# EAGLE library part XBEE_PROTO (library pxbee_proto)
XBee Prototype area
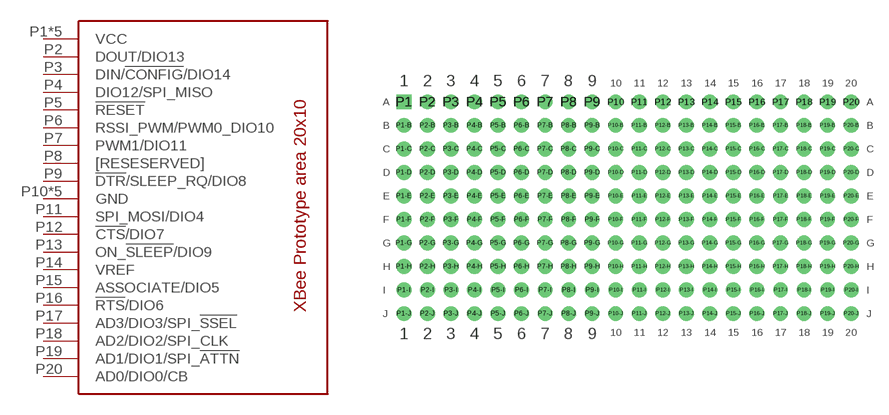
[diagram p0: symbol with the pads of XBEE_PROTO_TH_20X10; footprint XBEE_PROTO_TH_20X10]

Designator prefix -

## XBEE_PROTO  [XBEE_PROTO_TH_20X10]
P1  VCC  pwr
P1-B  VCC  pwr
P1-C  VCC  pwr
P1-D  VCC  pwr
P1-E  VCC  pwr
P2  DOUT/DIO13
P3  DIN/!CONFIG!/DIO14
P4  DIO12/SPI_MISO
P5  !RESET  in
P6  RSSI_PWM/PWM0_DIO10
P7  PWM1/DIO11
P8  [RESESERVED]  nc
P9  !DTR!/SLEEP_RQ/DIO8
P10  GND  pwr
P10-B  GND  pwr
P10-C  GND  pwr
P10-D  GND  pwr
P10-E  GND  pwr
P11  SPI_MOSI/DIO4
P12  !CTS!/DIO7
P13  ON_!SLEEP!/DIO9
P14  VREF  in
P15  ASSOCIATE/DIO5
P16  !RTS!/DIO6
P17  AD3/DIO3/SPI_!SSEL!
P18  AD2/DIO2/SPI_CLK
P19  AD1/DIO1/SPI_!ATTN!
P20  AD0/DIO0/CB

## Footprint XBEE_PROTO_TH_20X10 (pad centres in mm)
drill 1 pad 1.6 square: P1 -24.13,0
drill 1 pad 1.6: P1-B -24.13,-2.54; P1-C -24.13,-5.08; P1-D -24.13,-7.62; P1-E -24.13,-10.16; P1-F -24.13,-12.7; P1-G -24.13,-15.24; P1-H -24.13,-17.78; P1-I -24.13,-20.32; P1-J -24.13,-22.86; P2 -21.59,0; P2-B -21.59,-2.54; P2-C -21.59,-5.08; P2-D -21.59,-7.62; P2-E -21.59,-10.16; P2-F -21.59,-12.7; P2-G -21.59,-15.24; P2-H -21.59,-17.78; P2-I -21.59,-20.32; P2-J -21.59,-22.86; P3 -19.05,0; P3-B -19.05,-2.54; P3-C -19.05,-5.08; P3-D -19.05,-7.62; P3-E -19.05,-10.16; P3-F -19.05,-12.7; P3-G -19.05,-15.24; P3-H -19.05,-17.78; P3-I -19.05,-20.32; P3-J -19.05,-22.86; P4 -16.51,0; P4-B -16.51,-2.54; P4-C -16.51,-5.08; P4-D -16.51,-7.62; P4-E -16.51,-10.16; P4-F -16.51,-12.7; P4-G -16.51,-15.24; P4-H -16.51,-17.78; P4-I -16.51,-20.32; P4-J -16.51,-22.86; P5 -13.97,0; P5-B -13.97,-2.54; P5-C -13.97,-5.08; P5-D -13.97,-7.62; P5-E -13.97,-10.16; P5-F -13.97,-12.7; P5-G -13.97,-15.24; P5-H -13.97,-17.78; P5-I -13.97,-20.32; P5-J -13.97,-22.86; P6 -11.43,0; P6-B -11.43,-2.54; P6-C -11.43,-5.08; P6-D -11.43,-7.62; P6-E -11.43,-10.16; P6-F -11.43,-12.7; P6-G -11.43,-15.24; P6-H -11.43,-17.78; P6-I -11.43,-20.32; P6-J -11.43,-22.86; P7 -8.89,0; P7-B -8.89,-2.54; P7-C -8.89,-5.08; P7-D -8.89,-7.62; P7-E -8.89,-10.16; P7-F -8.89,-12.7; P7-G -8.89,-15.24; P7-H -8.89,-17.78; P7-I -8.89,-20.32; P7-J -8.89,-22.86; P8 -6.35,0; P8-B -6.35,-2.54; P8-C -6.35,-5.08; P8-D -6.35,-7.62; P8-E -6.35,-10.16; P8-F -6.35,-12.7; P8-G -6.35,-15.24; P8-H -6.35,-17.78; P8-I -6.35,-20.32; P8-J -6.35,-22.86; P9 -3.81,0; P9-B -3.81,-2.54; P9-C -3.81,-5.08; P9-D -3.81,-7.62; P9-E -3.81,-10.16; P9-F -3.81,-12.7; P9-G -3.81,-15.24; P9-H -3.81,-17.78; P9-I -3.81,-20.32; P9-J -3.81,-22.86; P10 -1.27,0; P10-B -1.27,-2.54; P10-C -1.27,-5.08; P10-D -1.27,-7.62; P10-E -1.27,-10.16; P10-F -1.27,-12.7; P10-G -1.27,-15.24; P10-H -1.27,-17.78; P10-I -1.27,-20.32; P10-J -1.27,-22.86; P11 1.27,0; P11-B 1.27,-2.54; P11-C 1.27,-5.08; P11-D 1.27,-7.62; P11-E 1.27,-10.16; P11-F 1.27,-12.7; P11-G 1.27,-15.24; P11-H 1.27,-17.78; P11-I 1.27,-20.32; P11-J 1.27,-22.86; P12 3.81,0; P12-B 3.81,-2.54; P12-C 3.81,-5.08; P12-D 3.81,-7.62; P12-E 3.81,-10.16; P12-F 3.81,-12.7; P12-G 3.81,-15.24; P12-H 3.81,-17.78; P12-I 3.81,-20.32; P12-J 3.81,-22.86; P13 6.35,0; P13-B 6.35,-2.54; P13-C 6.35,-5.08; P13-D 6.35,-7.62; P13-E 6.35,-10.16; P13-F 6.35,-12.7; P13-G 6.35,-15.24; P13-H 6.35,-17.78; P13-I 6.35,-20.32; P13-J 6.35,-22.86; P14 8.89,0; P14-B 8.89,-2.54; P14-C 8.89,-5.08; P14-D 8.89,-7.62; P14-E 8.89,-10.16; P14-F 8.89,-12.7; P14-G 8.89,-15.24; P14-H 8.89,-17.78; P14-I 8.89,-20.32; P14-J 8.89,-22.86; P15 11.43,0; P15-B 11.43,-2.54; P15-C 11.43,-5.08; P15-D 11.43,-7.62; P15-E 11.43,-10.16; P15-F 11.43,-12.7; P15-G 11.43,-15.24; P15-H 11.43,-17.78; P15-I 11.43,-20.32; P15-J 11.43,-22.86; P16 13.97,0; P16-B 13.97,-2.54; P16-C 13.97,-5.08; P16-D 13.97,-7.62; P16-E 13.97,-10.16; P16-F 13.97,-12.7; P16-G 13.97,-15.24; P16-H 13.97,-17.78; P16-I 13.97,-20.32; P16-J 13.97,-22.86; P17 16.51,0; P17-B 16.51,-2.54; P17-C 16.51,-5.08; P17-D 16.51,-7.62; P17-E 16.51,-10.16; P17-F 16.51,-12.7; P17-G 16.51,-15.24; P17-H 16.51,-17.78; P17-I 16.51,-20.32; P17-J 16.51,-22.86; P18 19.05,0; P18-B 19.05,-2.54; P18-C 19.05,-5.08; P18-D 19.05,-7.62; P18-E 19.05,-10.16; P18-F 19.05,-12.7; P18-G 19.05,-15.24; P18-H 19.05,-17.78; P18-I 19.05,-20.32; P18-J 19.05,-22.86; P19 21.59,0; P19-B 21.59,-2.54; P19-C 21.59,-5.08; P19-D 21.59,-7.62; P19-E 21.59,-10.16; P19-F 21.59,-12.7; P19-G 21.59,-15.24; P19-H 21.59,-17.78; P19-I 21.59,-20.32; P19-J 21.59,-22.86; P20 24.13,0; P20-B 24.13,-2.54; P20-C 24.13,-5.08; P20-D 24.13,-7.62; P20-E 24.13,-10.16; P20-F 24.13,-12.7; P20-G 24.13,-15.24; P20-H 24.13,-17.78; P20-I 24.13,-20.32; P20-J 24.13,-22.86